# Altium footprint library DI_SOD123LF.PcbLib: 1 footprints
Each footprint in its own frame and in the unit in brackets; x right, y up, seen from the top. Pads: shape width x height; smd on the part's side, far side on the other; paste and mask are expansions set on the pad; w line width, h text height; cw(c..) or ccw(c..) is an arc to the next point about the centre after c.
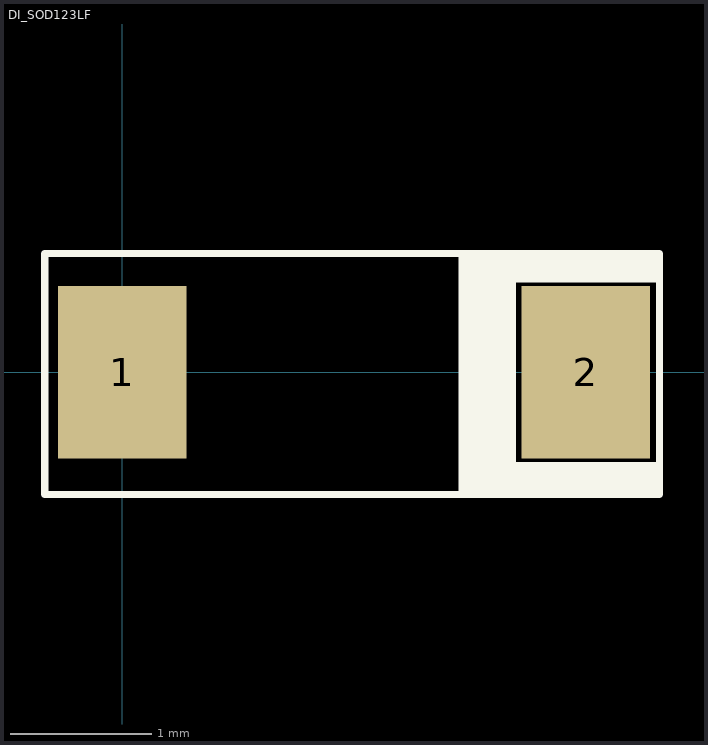
[diagram p0: the footprint, top view; thin cyan lines are the x and y axes]

## DI_SOD123LF [mm]
height 1
pads (2):
  rect 0.91x1.22 smd: 1(0,0) 2(3.275,0)
Top Overlay:
  lines w0.051: 2.399,-0.864 2.399,0.838 ; 2.45,-0.864 2.45,0.813 ; 2.501,-0.864 2.501,0.813 ; 2.552,-0.838 2.552,0.813 ; 2.603,-0.864 2.603,0.813 ; 2.653,-0.864 2.653,0.813 ; 2.704,-0.838 2.704,0.813 ; 2.73,-0.813 3.796,-0.813 3.796,-0.762 2.755,-0.762 ; 2.73,0.762 3.796,0.762 ; 2.755,-0.838 2.755,0.813 3.796,0.813 ; 2.755,-0.711 3.771,-0.711 ; 2.755,-0.66 3.796,-0.66 ; 2.755,0.66 3.771,0.66 ; 2.755,0.711 3.771,0.711 ; -0.547,-0.864 3.796,-0.864 3.796,0.838 -0.547,0.838 -0.547,-0.864
3D body: height 1.47, standoff 0.02, extent -0.288,-0.862 3.562,0.838